# EAGLE library part TYR_TPS2552 (library Tyr V4)
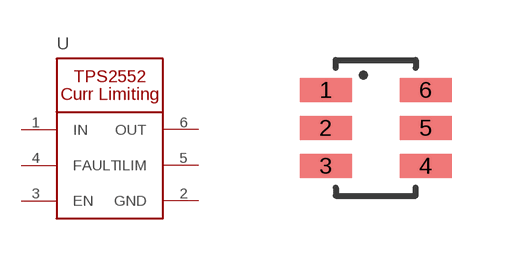
[diagram p2: symbol with the pads of TYR_SOT-23-6P; footprint TYR_SOT-23-6P]

Designator prefix U

## TYR_TPS2552  [TYR_SOT-23-6P]
1  IN
2  GND
3  EN
4  FAULT
5  ILIM
6  OUT

## Footprint TYR_SOT-23-6P (pad centres in mm)
SOT-23-6L
smd 1.3 x 0.6: 1 -1.25,0.95; 2 -1.25,0; 3 -1.25,-0.95; 4 1.25,-0.95; 5 1.25,0; 6 1.25,0.95